# Altium footprint library 6903 6729 xx 76.PcbLib: 12 footprints
Each footprint in its own frame and in the unit in brackets; x right, y up, seen from the top. Pads: shape width x height; smd on the part's side, far side on the other; paste and mask are expansions set on the pad; w line width, h text height; cw(c..) or ccw(c..) is an arc to the next point about the centre after c.
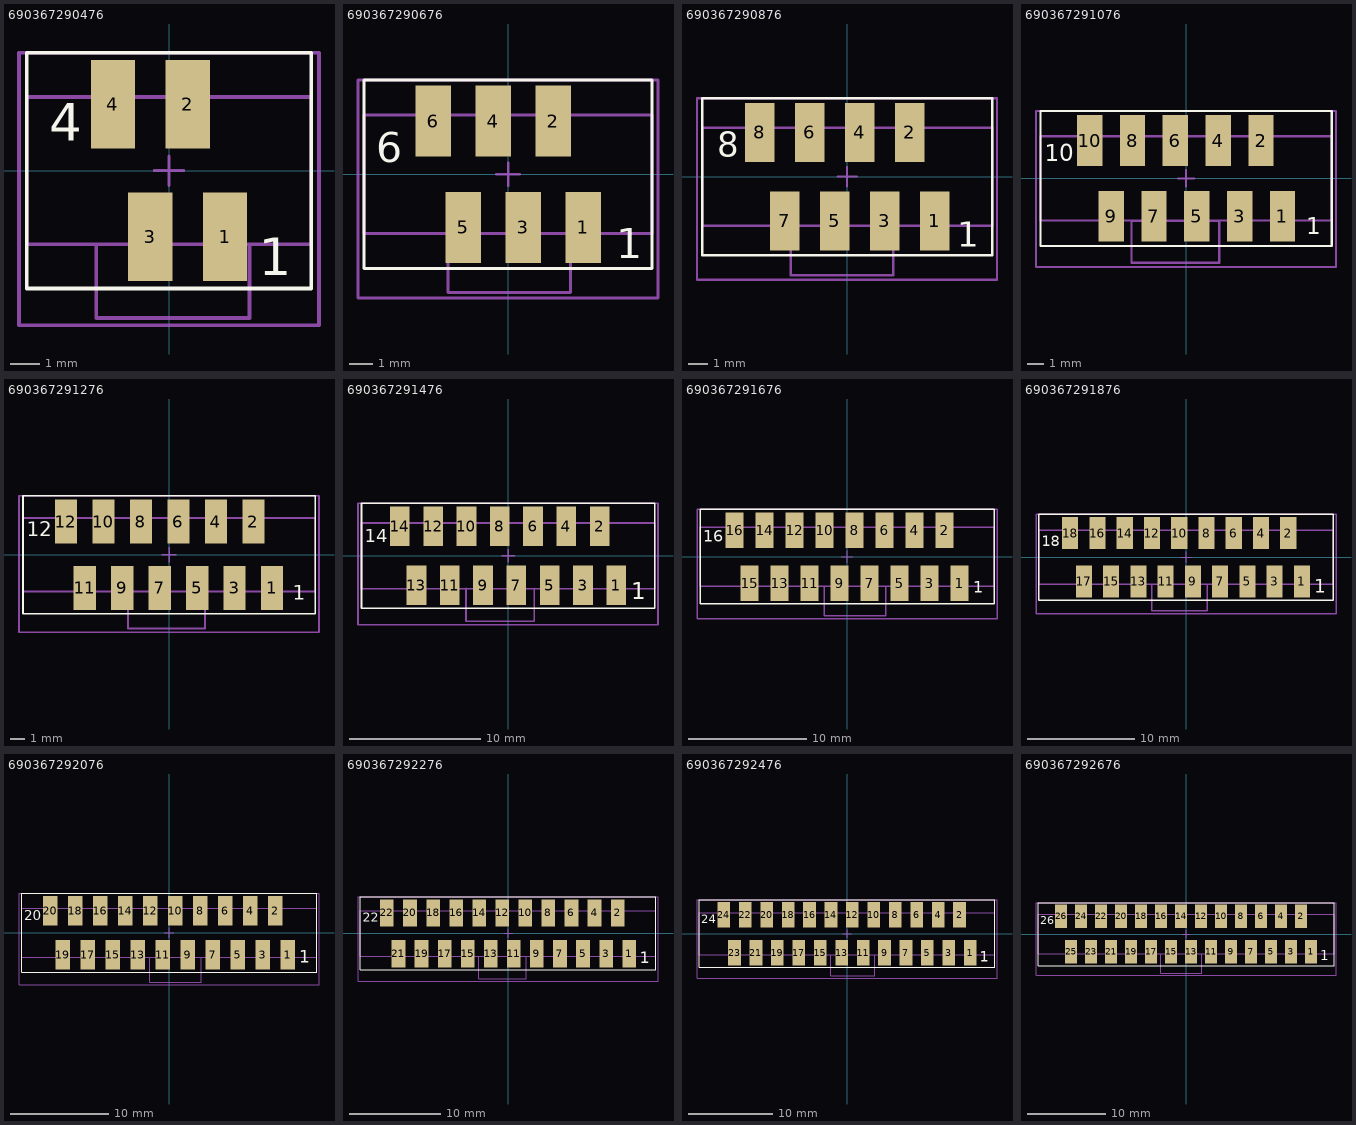
[diagram p0: the footprints below, top view; thin cyan lines are the x and y axes]

## 690367290476 [mm] "and Polarization, 4 pins, SMT, straight"
height 5.75
pads (4):
  rect 1.5x3 smd: 1(1.905,-2.25) 2(0.635,2.25) 3(-0.635,-2.25) 4(-1.905,2.25)
Top Overlay:
  lines w0.127: -4.826,-4 4.826,-4 4.826,4 -4.826,4 -4.826,-4
  text "1" at 3.048,-3.556 h1.27
  text "4" at -4.064,1.016 h1.27
Mechanical 13:
  lines w0.127: -2.47,-4.998 -2.47,-2.5 ; -2.47,-4.031 -2.47,-5 2.731,-5 2.733,-4.033 ; 2.73,-5.004 2.73,-2.5 ; -2.47,-2.5 2.73,-2.5 ; -2.47,-2.5 -4.826,-2.5 -4.826,2.5 4.826,2.5 4.826,-2.5 2.73,-2.5
Mechanical 15:
  lines w0.1: -0.5,0 0.5,0 ; 0,-0.5 0,0.5
  lines w0.127: -5.09,-5.25 -5.09,4 5.09,4 5.09,-5.25 -5.09,-5.25
3D body: height 5.7, standoff -0.05, extent -4.84,-3.5 4.84,3.5

## 690367290676 [mm] "and Polarization, 6 pins, SMT, straight"
height 5.75
pads (6):
  rect 1.5x3 smd: 1(3.175,-2.25) 2(1.905,2.25) 3(0.635,-2.25) 4(-0.635,2.25) 5(-1.905,-2.25) 6(-3.175,2.25)
Top Overlay:
  lines w0.127: -6.096,-4 -6.096,4 6.096,4 6.096,-4 -6.096,-4
  text "1" at 4.572,-3.556 h1.27
  text "6" at -5.588,0.508 h1.27
Mechanical 13:
  lines w0.127: -6.096,-2.5 -6.096,2.5 6.096,2.5 6.096,-2.5 -6.096,-2.5 ; -2.55,-5 2.65,-5 2.65,-2.502 -2.55,-2.502 -2.55,-5
Mechanical 15:
  lines w0.1: -0.5,0 0.5,0 ; 0,-0.5 0,0.5
  lines w0.127: -6.36,-5.25 6.35,-5.25 6.35,4 -6.36,4 -6.36,-5.25
3D body: height 5.7, standoff -0.05, extent -6.11,-3.5 6.11,3.5

## 690367290876 [mm] "and Polarization, 8 pins, SMT, straight"
height 5.75
pads (8):
  rect 1.5x3 smd: 1(4.445,-2.25) 2(3.175,2.25) 3(1.905,-2.25) 4(0.635,2.25) 5(-0.635,-2.25) 6(-1.905,2.25) 7(-3.175,-2.25) 8(-4.445,2.25)
Top Overlay:
  lines w0.127: -7.366,-4 7.366,-4 7.366,4 -7.366,4 -7.366,-4
  text "1" at 5.588,-3.556 h1.27
  text "8" at -6.604,1.016 h1.27
Mechanical 13:
  lines w0.127: -2.869,-2.5 -2.869,-5 2.335,-5 2.335,-2.5 ; -7.366,-2.5 -7.366,2.5 7.366,2.5 7.366,-2.5 -7.366,-2.5
Mechanical 15:
  lines w0.1: -0.5,0 0.5,0 ; 0,-0.5 0,0.5
  lines w0.127: -7.63,-5.25 -7.63,4 7.62,4 7.62,-5.25 -7.63,-5.25
3D body: height 5.7, standoff -0.05, extent -7.38,-3.5 7.38,3.5

## 690367291076 [mm] "and Polarization, 10 pins, SMT, straight"
height 5.75
pads (10):
  rect 1.5x3 smd: 1(5.715,-2.25) 2(4.445,2.25) 3(3.175,-2.25) 4(1.905,2.25) 5(0.635,-2.25) 6(-0.635,2.25) 7(-1.905,-2.25) 8(-3.175,2.25) 9(-4.445,-2.25) 10(-5.715,2.25)
Top Overlay:
  lines w0.127: -8.636,-4 -8.636,4 8.636,4 8.636,-4 -8.636,-4
  text "10" at -8.382,1.016 h1
  text "1" at 7.112,-3.302 h1
Mechanical 13:
  lines w0.127: -3.235,-4.487 -3.235,-4.047 ; -8.636,-2.5 8.636,-2.5 8.636,2.5 -8.636,2.5 -8.636,-2.5 ; -3.235,-5 -3.235,-2.507 1.965,-2.507 1.965,-5 -3.235,-5
Mechanical 15:
  lines w0.1: -0.5,0 0.5,0 ; 0,-0.5 0,0.5
  lines w0.127: -8.9,-5.25 8.89,-5.25 8.89,4 -8.9,4 -8.9,-5.25
3D body: height 5.7, standoff -0.05, extent -8.65,-3.5 8.65,3.5

## 690367291276 [mm] "and Polarization, 12 pins, SMT, straight"
height 5.75
pads (12):
  rect 1.5x3 smd: 1(6.985,-2.25) 2(5.715,2.25) 3(4.445,-2.25) 4(3.175,2.25) 5(1.905,-2.25) 6(0.635,2.25) 7(-0.635,-2.25) 8(-1.905,2.25) 9(-3.175,-2.25) 10(-4.445,2.25) 11(-5.715,-2.25) 12(-6.985,2.25)
Top Overlay:
  lines w0.127: -9.906,-4 9.906,-4 9.906,4 -9.906,4 -9.906,-4
  text "1" at 8.382,-3.048 h1
  text "12" at -9.652,1.27 h1
Mechanical 13:
  lines w0.127: -2.778,-2.507 -2.778,-5 2.422,-5 2.422,-2.507 ; -9.906,-2.5 -9.906,2.5 9.906,2.5 9.906,-2.5 -9.906,-2.5
Mechanical 15:
  lines w0.1: -0.5,0 0.5,0 ; 0,-0.5 0,0.5
  lines w0.127: -10.17,-5.25 10.16,-5.25 10.16,4 -10.17,4 -10.17,-5.25
3D body: height 5.7, standoff -0.05, extent -9.92,-3.5 9.92,3.5

## 690367291476 [mm] "and Polarization, 14 pins, SMT, straight"
height 5.75
pads (14):
  rect 1.5x3 smd: 1(8.255,-2.25) 2(6.985,2.25) 3(5.715,-2.25) 4(4.445,2.25) 5(3.175,-2.25) 6(1.905,2.25) 7(0.635,-2.25) 8(-0.635,2.25) 9(-1.905,-2.25) 10(-3.175,2.25) 11(-4.445,-2.25) 12(-5.715,2.25) 13(-6.985,-2.25) 14(-8.255,2.25)
Top Overlay:
  lines w0.127: -11.176,-4 11.176,-4 11.176,4 -11.176,4 -11.176,-4
  text "14" at -10.922,1.016 h1
  text "1" at 9.398,-3.302 h1.27
Mechanical 13:
  lines w0.127: -3.208,-2.487 -3.208,-5 1.992,-5 1.992,-2.487 ; -11.176,-2.5 11.176,-2.5 11.176,2.5 -11.176,2.5 -11.176,-2.5
Mechanical 15:
  lines w0.1: -0.5,0 0.5,0 ; 0,-0.5 0,0.5
  lines w0.127: -11.44,-5.25 -11.44,4 11.43,4 11.43,-5.25 -11.44,-5.25
3D body: height 5.7, standoff -0.05, extent -11.19,-3.5 11.19,3.5

## 690367291676 [mm] "and Polarization, 16 pins, SMT, straight"
pads (16):
  rect 1.5x3 smd: 1(9.525,-2.25) 2(8.255,2.25) 3(6.985,-2.25) 4(5.715,2.25) 5(4.445,-2.25) 6(3.175,2.25) 7(1.905,-2.25) 8(0.635,2.25) 9(-0.635,-2.25) 10(-1.905,2.25) 11(-3.175,-2.25) 12(-4.445,2.25) 13(-5.715,-2.25) 14(-6.985,2.25) 15(-8.255,-2.25) 16(-9.525,2.25)
Top Overlay:
  lines w0.127: -12.446,-4 12.446,-4 12.446,4 -12.446,4 -12.446,-4
  text "16" at -12.192,1.27 h1
  text "1" at 10.668,-3.048 h1
Mechanical 13:
  lines w0.127: -1.938,-4.047 -1.938,-5 3.262,-5 3.262,-4.057 ; -1.938,-2.497 -1.93,-4.978 ; 3.262,-5.004 3.262,-2.497 ; -12.446,-2.5 12.446,-2.5 12.446,2.5 -12.446,2.5 -12.446,-2.5
Mechanical 15:
  lines w0.1: -0.5,0 0.5,0 ; 0,-0.5 0,0.5
  lines w0.127: -12.71,-5.25 -12.71,4 12.7,4 12.7,-5.25 -12.71,-5.25
3D body: height 5.7, standoff -0.05, extent -12.46,-3.5 12.46,3.5

## 690367291876 [mm] "and Polarization, 18 pins, SMT, straight"
pads (18):
  rect 1.5x3 smd: 1(10.795,-2.25) 2(9.525,2.25) 3(8.255,-2.25) 4(6.985,2.25) 5(5.715,-2.25) 6(4.445,2.25) 7(3.175,-2.25) 8(1.905,2.25) 9(0.635,-2.25) 10(-0.635,2.25) 11(-1.905,-2.25) 12(-3.175,2.25) 13(-4.445,-2.25) 14(-5.715,2.25) 15(-6.985,-2.25) 16(-8.255,2.25) 17(-9.525,-2.25) 18(-10.795,2.25)
Top Overlay:
  lines w0.127: -13.716,-4 -13.716,4 13.716,4 13.716,-4 -13.716,-4
  text "1" at 11.938,-3.302 h1.27
  text "18" at -13.462,1.016 h1
Mechanical 13:
  lines w0.127: -3.208,-4.047 -3.208,-5 1.992,-5 1.992,-4.057 ; -3.208,-2.497 -3.208,-5.004 1.992,-5.004 1.992,-2.497 ; -13.716,-2.5 -13.716,2.5 13.716,2.5 13.716,-2.5 -13.716,-2.5
Mechanical 15:
  lines w0.1: -0.5,0 0.5,0 ; 0,-0.5 0,0.5
  lines w0.127: -13.98,-5.25 13.97,-5.25 13.97,4 -13.98,4 -13.98,-5.25
3D body: height 5.7, standoff -0.05, extent -13.73,-3.5 13.73,3.5

## 690367292076 [mm] "and Polarization, 20 pins, SMT, straight"
pads (20):
  rect 1.5x3 smd: 1(12.065,-2.25) 2(10.795,2.25) 3(9.525,-2.25) 4(8.255,2.25) 5(6.985,-2.25) 6(5.715,2.25) 7(4.445,-2.25) 8(3.175,2.25) 9(1.905,-2.25) 10(0.635,2.25) 11(-0.635,-2.25) 12(-1.905,2.25) 13(-3.175,-2.25) 14(-4.445,2.25) 15(-5.715,-2.25) 16(-6.985,2.25) 17(-8.255,-2.25) 18(-9.525,2.25) 19(-10.795,-2.25) 20(-12.065,2.25)
Top Overlay:
  lines w0.127: -14.986,-4 -14.986,4 14.986,4 14.986,-4 -14.986,-4
  text "20" at -14.732,1.27 h1
  text "1" at 13.208,-3.048 h1.27
Mechanical 13:
  lines w0.127: -1.938,-2.497 -1.938,-5 3.262,-5 3.262,-2.497 ; -14.986,-2.5 14.986,-2.5 14.986,2.5 -14.986,2.5 -14.986,-2.5
Mechanical 15:
  lines w0.1: -0.5,0 0.5,0 ; 0,-0.5 0,0.5
  lines w0.127: -15.25,-5.25 -15.25,4 15.24,4 15.24,-5.25 -15.25,-5.25
3D body: height 5.7, standoff -0.05, extent -15,-3.5 15,3.5

## 690367292276 [mm] "and Polarization, 22 pins, SMT, straight"
pads (22):
  rect 1.5x3 smd: 1(13.335,-2.25) 2(12.065,2.25) 3(10.795,-2.25) 4(9.525,2.25) 5(8.255,-2.25) 6(6.985,2.25) 7(5.715,-2.25) 8(4.445,2.25) 9(3.175,-2.25) 10(1.905,2.25) 11(0.635,-2.25) 12(-0.635,2.25) 13(-1.905,-2.25) 14(-3.175,2.25) 15(-4.445,-2.25) 16(-5.715,2.25) 17(-6.985,-2.25) 18(-8.255,2.25) 19(-9.525,-2.25) 20(-10.795,2.25) 21(-12.065,-2.25) 22(-13.335,2.25)
Top Overlay:
  lines w0.127: -16.256,-4 -16.256,4 16.256,4 16.256,-4 -16.256,-4
  text "22" at -16.002,1.27 h1
  text "1" at 14.478,-3.302 h1.27
Mechanical 13:
  lines w0.127: -3.208,-4.047 -3.208,-5.004 ; -3.208,-2.497 -3.208,-5.004 ; 1.992,-4.057 1.992,-5.004 ; 1.992,-2.497 1.992,-5.004 ; -3.208,-5.004 1.992,-5.004 ; -3.208,-5.004 1.992,-5.004 ; -16.256,-2.5 16.256,-2.5 16.256,2.5 -16.256,2.5 -16.256,-2.5
Mechanical 15:
  lines w0.1: -0.5,0 0.5,0 ; 0,-0.5 0,0.5
  lines w0.127: -16.52,-5.25 -16.52,4 16.51,4 16.51,-5.25 -16.52,-5.25
3D body: height 5.7, standoff -0.05, extent -16.27,-3.5 16.27,3.5

## 690367292476 [mm] "and Polarization, 24 pins, SMT, straight"
pads (24):
  rect 1.5x3 smd: 1(14.605,-2.25) 2(13.335,2.25) 3(12.065,-2.25) 4(10.795,2.25) 5(9.525,-2.25) 6(8.255,2.25) 7(6.985,-2.25) 8(5.715,2.25) 9(4.445,-2.25) 10(3.175,2.25) 11(1.905,-2.25) 12(0.635,2.25) 13(-0.635,-2.25) 14(-1.905,2.25) 15(-3.175,-2.25) 16(-4.445,2.25) 17(-5.715,-2.25) 18(-6.985,2.25) 19(-8.255,-2.25) 20(-9.525,2.25) 21(-10.795,-2.25) 22(-12.065,2.25) 23(-13.335,-2.25) 24(-14.605,2.25)
Top Overlay:
  lines w0.127: -17.526,-4 17.526,-4 17.526,4 -17.526,4 -17.526,-4
  text "1" at 15.748,-3.302 h1.27
  text "24" at -17.272,1.27 h1
Mechanical 13:
  lines w0.127: -1.938,-5.004 -1.938,-2.497 ; -1.938,-4.047 -1.938,-5 3.262,-5 3.262,-4.057 ; 3.262,-4.332 3.262,-2.497 ; -17.526,-2.5 -17.526,2.5 17.526,2.5 17.526,-2.5 -17.526,-2.5
Mechanical 15:
  lines w0.1: -0.5,0 0.5,0 ; 0,-0.5 0,0.5
  lines w0.127: -17.79,-5.25 17.78,-5.25 17.78,4 -17.79,4 -17.79,-5.25
3D body: height 5.7, standoff -0.05, extent -17.54,-3.5 17.54,3.5

## 690367292676 [mm] "and Polarization, 26 pins, SMT, straight"
pads (26):
  rect 1.5x3 smd: 1(15.875,-2.25) 2(14.605,2.25) 3(13.335,-2.25) 4(12.065,2.25) 5(10.795,-2.25) 6(9.525,2.25) 7(8.255,-2.25) 8(6.985,2.25) 9(5.715,-2.25) 10(4.445,2.25) 11(3.175,-2.25) 12(1.905,2.25) 13(0.635,-2.25) 14(-0.635,2.25) 15(-1.905,-2.25) 16(-3.175,2.25) 17(-4.445,-2.25) 18(-5.715,2.25) 19(-6.985,-2.25) 20(-8.255,2.25) 21(-9.525,-2.25) 22(-10.795,2.25) 23(-12.065,-2.25) 24(-13.335,2.25) 25(-14.605,-2.25) 26(-15.875,2.25)
Top Overlay:
  lines w0.127: -18.796,-4 18.796,-4 18.796,4 -18.796,4 -18.796,-4
  text "26" at -18.542,1.27 h1
  text "1" at 17.018,-3.302 h1.27
Mechanical 13:
  lines w0.127: -3.208,-2.497 -3.208,-5 1.992,-5 1.992,-2.497 ; -18.796,-2.5 18.796,-2.5 18.796,2.5 -18.796,2.5 -18.796,-2.5
Mechanical 15:
  lines w0.1: -0.5,0 0.5,0 ; 0,-0.5 0,0.5
  lines w0.127: -19.06,-5.25 19.05,-5.25 19.05,4 -19.06,4 -19.06,-5.25
3D body: height 5.7, standoff -0.05, extent -18.81,-3.5 18.81,3.5